# Altium schematic symbol library XL1509.SchLib: 1 symbol
Pins are listed as number, name and electrical type; pins without a type are passive.

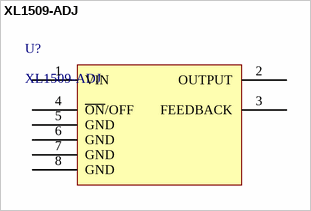
[diagram p0: symbol XL1509-ADJ]

## XL1509-ADJ
designator U?
SOIC-8 DC-DC Converters ROHS
pins: 1 VIN, 2 OUTPUT, 3 FEEDBACK, 4 ~{O}~{N}/OFF, 5 GND, 6 GND, 7 GND, 8 GND